# EAGLE library part MIKROELCD (library atmel-samd)
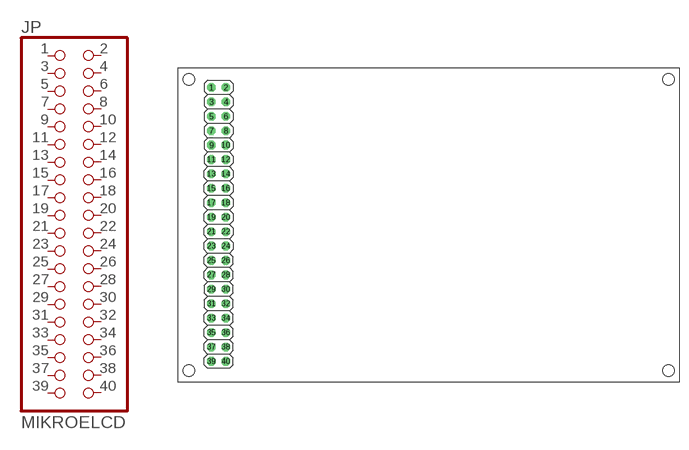
[diagram p5: symbol with the pads of 2X20MIKROE; footprint 2X20MIKROE]

Designator prefix JP

## MIKROELCD  [2X20MIKROE]
1  1  pas
2  2  pas
3  3  pas
4  4  pas
5  5  pas
6  6  pas
7  7  pas
8  8  pas
9  9  pas
10  10  pas
11  11  pas
12  12  pas
13  13  pas
14  14  pas
15  15  pas
16  16  pas
17  17  pas
18  18  pas
19  19  pas
20  20  pas
21  21  pas
22  22  pas
23  23  pas
24  24  pas
25  25  pas
26  26  pas
27  27  pas
28  28  pas
29  29  pas
30  30  pas
31  31  pas
32  32  pas
33  33  pas
34  34  pas
35  35  pas
36  36  pas
37  37  pas
38  38  pas
39  39  pas
40  40  pas

## Footprint 2X20MIKROE (pad centres in mm)
PIN HEADER
drill 1.016 octagon: 1 5.982,51.892; 2 8.522,51.892; 3 5.982,49.352; 4 8.522,49.352; 5 5.982,46.812; 6 8.522,46.812; 7 5.982,44.272; 8 8.522,44.272; 9 5.982,41.732; 10 8.522,41.732; 11 5.982,39.192; 12 8.522,39.192; 13 5.982,36.652; 14 8.522,36.652; 15 5.982,34.112; 16 8.522,34.112; 17 5.982,31.572; 18 8.522,31.572; 19 5.982,29.032; 20 8.522,29.032; 21 5.982,26.492; 22 8.522,26.492; 23 5.982,23.952; 24 8.522,23.952; 25 5.982,21.412; 26 8.522,21.412; 27 5.982,18.872; 28 8.522,18.872; 29 5.982,16.332; 30 8.522,16.332; 31 5.982,13.792; 32 8.522,13.792; 33 5.982,11.252; 34 8.522,11.252; 35 5.982,8.712; 36 8.522,8.712; 37 5.982,6.172; 38 8.522,6.172; 39 5.982,3.632; 40 8.522,3.632
hole 2 at 2.04,2.02
hole 2 at 86.48,2.02
hole 2 at 86.48,53.31
hole 2 at 2.04,53.31